# Altium schematic symbol library VCAN36A2-03G-E3-08.SchLib: 1 symbol
Pins are listed as number, name and electrical type; pins without a type are passive.

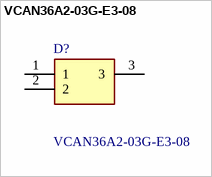
[diagram p0: symbol VCAN36A2-03G-E3-08]

## VCAN36A2-03G-E3-08
designator D?
For CAN and FLEX-bus applications  Small SOT-323 package  2-line ESD protection Working range +/- 36 V; Manufacturer_Name: Vishay; Geometry.Height: 1.1mm; Manufacturer_Part_Number: VCAN36A2-03G-E3-08; Mouser Part Number: 78-VCAN36A203G-E3-08; Mouser Price/Stock: https://www.mouser.co.uk/ProductDetail/Vishay-General-Semiconductor/VCAN36A2-03G-E3-08?qs=TuK3vfAjtkX8mPlo4aLToA%3D%3D; Arrow Part Number: *; Arrow Price/Stock: *; Datasheet Link: https://www.vishay.com/docs/86164/vcan36a2-03g.pdf
footprint SOT65P230X110-3N
pins: 1, 2, 3